# EAGLE library part MA20-2-ICB-EXT (library CON-pinHeader-AON)
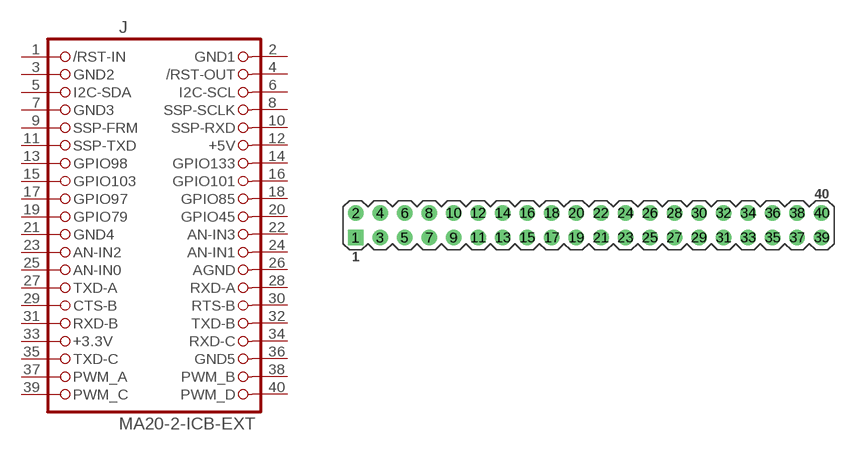
[diagram p5: symbol with the pads of MA20-2; footprint MA20-2]

Designator prefix J

## MA20-2-ICB-EXT  [MA20-2]
1  /RST-IN  pas
2  GND1  pas
3  GND2  pas
4  /RST-OUT  pas
5  I2C-SDA  pas
6  I2C-SCL  pas
7  GND3  pas
8  SSP-SCLK  pas
9  SSP-FRM  pas
10  SSP-RXD  pas
11  SSP-TXD  pas
12  +5V  pas
13  GPIO98  pas
14  GPIO133  pas
15  GPIO103  pas
16  GPIO101  pas
17  GPIO97  pas
18  GPIO85  pas
19  GPIO79  pas
20  GPIO45  pas
21  GND4  pas
22  AN-IN3  pas
23  AN-IN2  pas
24  AN-IN1  pas
25  AN-IN0  pas
26  AGND  pas
27  TXD-A  pas
28  RXD-A  pas
29  CTS-B  pas
30  RTS-B  pas
31  RXD-B  pas
32  TXD-B  pas
33  +3.3V  pas
34  RXD-C  pas
35  TXD-C  pas
36  GND5  pas
37  PWM_A  pas
38  PWM_B  pas
39  PWM_C  pas
40  PWM_D  pas

## Footprint MA20-2 (pad centres in mm)
drill 1 pad 1.6 square: 1 -24.13,-1.27
drill 1 pad 1.6: 2 -24.13,1.27; 3 -21.59,-1.27; 4 -21.59,1.27; 5 -19.05,-1.27; 6 -19.05,1.27; 7 -16.51,-1.27; 8 -16.51,1.27; 9 -13.97,-1.27; 10 -13.97,1.27; 11 -11.43,-1.27; 12 -11.43,1.27; 13 -8.89,-1.27; 14 -8.89,1.27; 15 -6.35,-1.27; 16 -6.35,1.27; 17 -3.81,-1.27; 18 -3.81,1.27; 19 -1.27,-1.27; 20 -1.27,1.27; 21 1.27,-1.27; 22 1.27,1.27; 23 3.81,-1.27; 24 3.81,1.27; 25 6.35,-1.27; 26 6.35,1.27; 27 8.89,-1.27; 28 8.89,1.27; 29 11.43,-1.27; 30 11.43,1.27; 31 13.97,-1.27; 32 13.97,1.27; 33 16.51,-1.27; 34 16.51,1.27; 35 19.05,-1.27; 36 19.05,1.27; 37 21.59,-1.27; 38 21.59,1.27; 39 24.13,-1.27; 40 24.13,1.27